# EAGLE library part LTC2635HUD-LMI10PBF (library strasys_standard)
Quad I2C VOUT DACs with 10ppm/°C Reference
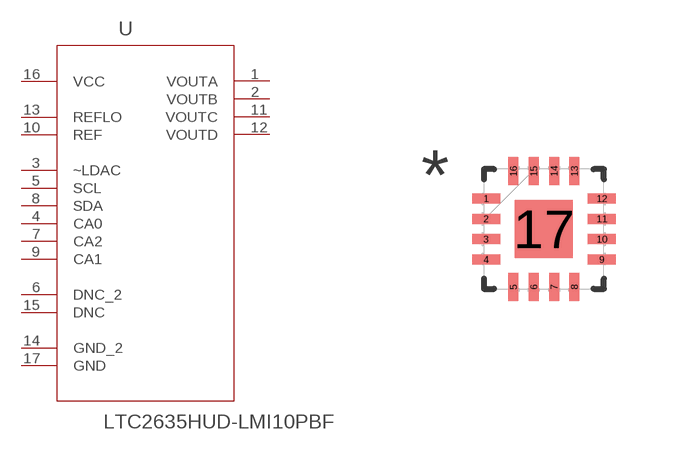
[diagram p5: symbol with the pads of QFN50P300X300X80-17N; footprint QFN50P300X300X80-17N]

Designator prefix U

## LTC2635HUD-LMI10PBF (MPN: LTC2635HUD-LMI10#PBF; OC_FARNELL: 1839199; OC_NEWARK: 52R9852; PACKAGE: QFN-16; SUPPLIER: Linear Technology)  [QFN50P300X300X80-17N]
1  VOUTA  out
2  VOUTB  out
3  ~LDAC  in
4  CA0  in
5  SCL  in
6  DNC_2  nc
7  CA2  in
8  SDA
9  CA1  in
10  REF
11  VOUTC  out
12  VOUTD  out
13  REFLO  in
14  GND_2  pas
15  DNC  nc
16  VCC  pwr
17  GND  pas

## Footprint QFN50P300X300X80-17N (pad centres in mm)
smd 0.7 x 0.25: 1 -1.448,0.762; 2 -1.448,0.254; 3 -1.448,-0.254; 4 -1.448,-0.762; 9 1.448,-0.762; 10 1.448,-0.254; 11 1.448,0.254; 12 1.448,0.762
smd 0.25 x 0.7: 5 -0.762,-1.448; 6 -0.254,-1.448; 7 0.254,-1.448; 8 0.762,-1.448; 13 0.762,1.448; 14 0.254,1.448; 15 -0.254,1.448; 16 -0.762,1.448
smd 1.448 x 1.448: 17 0,0